# Altium footprint library 33 RESISTORS_THD_AX14_8mm_P.PcbLib: 9 footprints
Each footprint in its own frame and in the unit in brackets; x right, y up, seen from the top. Pads: shape width x height; smd on the part's side, far side on the other; paste and mask are expansions set on the pad; w line width, h text height; cw(c..) or ccw(c..) is an arc to the next point about the centre after c.
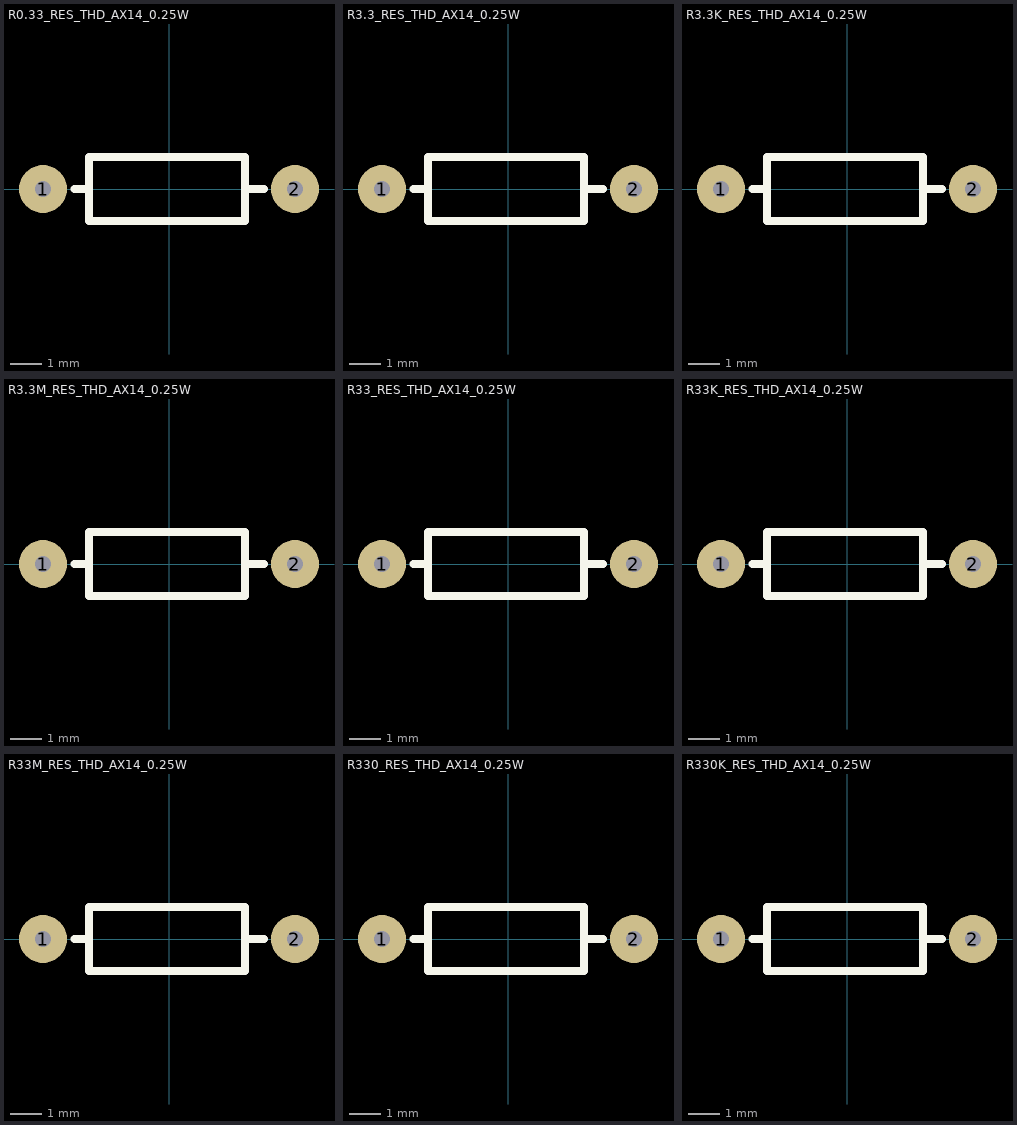
[diagram p0: the footprints below, top view; thin cyan lines are the x and y axes]

## R0.33_RES_THD_AX14_0.25W [mil] "RESISTOR 0.33 Ohm  THD AX14 0.25W Length  8mm"
pads (2):
  round 60 hole 19.68: 1(-157.48,0) 2(157.48,0)
Top Overlay:
  lines w10: -118.28,0 -100.6,0 ; 95,0 118.49,0 ; -100,-40 95,-40 95,40 -100,40 -100,-40
3D body "RES_THD_ASR_ASRM_0.33.STEP": height 96.5, standoff -96.46, extent -167.32,-45.33 167.32,45.33

## R3.3_RES_THD_AX14_0.25W [mil] "RESISTOR 3.3 Ohm  THD AX14 0.25W Length  8mm"
pads (2):
  round 60 hole 19.68: 1(-157.48,0) 2(157.48,0)
Top Overlay:
  lines w10: -118.28,0 -100.6,0 ; 95,0 118.49,0 ; -100,-40 -100,40 95,40 95,-40 -100,-40
3D body "RES_THD_ASR_ASRM_3.3.STEP": height 96.5, standoff -96.46, extent -167.32,-45.33 167.32,45.33

## R3.3K_RES_THD_AX14_0.25W [mil] "RESISTOR 3.3K Ohm  THD AX14 0.25W Length  8mm"
pads (2):
  round 60 hole 19.68: 1(-157.48,0) 2(157.48,0)
Top Overlay:
  lines w10: -118.28,0 -100.6,0 ; 95,0 118.49,0 ; -100,-40 95,-40 95,40 -100,40 -100,-40
3D body "RES_THD_ASR_ASRM_3.3K.STEP": height 96.5, standoff -96.46, extent -167.32,-45.33 167.32,45.33

## R3.3M_RES_THD_AX14_0.25W [mil] "RESISTOR 3.3M Ohm  THD AX14 0.25W Length  8mm"
pads (2):
  round 60 hole 19.68: 1(-157.48,0) 2(157.48,0)
Top Overlay:
  lines w10: -118.28,0 -100.6,0 ; 95,0 118.49,0 ; -100,-40 -100,40 95,40 95,-40 -100,-40
3D body "RES_THD_ASR_ASRM_3.3M.STEP": height 96.5, standoff -96.46, extent -167.32,-45.33 167.32,45.33

## R33_RES_THD_AX14_0.25W [mil] "RESISTOR 33 Ohm  THD AX14 0.25W Length  8mm"
pads (2):
  round 60 hole 19.68: 1(-157.48,0) 2(157.48,0)
Top Overlay:
  lines w10: -118.28,0 -100.6,0 ; 95,0 118.49,0 ; -100,-40 95,-40 95,40 -100,40 -100,-40
3D body "RES_THD_ASR_ASRM_33.STEP": height 96.5, standoff -96.46, extent -167.32,-45.33 167.32,45.33

## R33K_RES_THD_AX14_0.25W [mil] "RESISTOR 33K Ohm  THD AX14 0.25W Length  8mm"
pads (2):
  round 60 hole 19.68: 1(-157.48,0) 2(157.48,0)
Top Overlay:
  lines w10: -118.28,0 -100.6,0 ; 95,0 118.49,0 ; -100,-40 -100,40 95,40 95,-40 -100,-40
3D body "RES_THD_ASR_ASRM_33K.STEP": height 96.5, standoff -96.46, extent -167.32,-45.33 167.32,45.33

## R33M_RES_THD_AX14_0.25W [mil] "RESISTOR 33M Ohm  THD AX14 0.25W Length  8mm"
pads (2):
  round 60 hole 19.68: 1(-157.48,0) 2(157.48,0)
Top Overlay:
  lines w10: -118.28,0 -100.6,0 ; 95,0 118.49,0 ; -100,-40 -100,40 95,40 95,-40 -100,-40
3D body "RES_THD_ASR_ASRM_33M.STEP": height 96.5, standoff -96.46, extent -167.32,-45.33 167.32,45.33

## R330_RES_THD_AX14_0.25W [mil] "RESISTOR 330 Ohm  THD AX14 0.25W Length  8mm"
pads (2):
  round 60 hole 19.68: 1(-157.48,0) 2(157.48,0)
Top Overlay:
  lines w10: -118.28,0 -100.6,0 ; 95,0 118.49,0 ; -100,-40 -100,40 95,40 95,-40 -100,-40
3D body "RES_THD_ASR_ASRM_330.STEP": height 96.5, standoff -96.46, extent -167.32,-45.33 167.32,45.33

## R330K_RES_THD_AX14_0.25W [mil] "RESISTOR 330K Ohm  THD AX14 0.25W Length  8mm"
pads (2):
  round 60 hole 19.68: 1(-157.48,0) 2(157.48,0)
Top Overlay:
  lines w10: -118.28,0 -100.6,0 ; 95,0 118.49,0 ; -100,-40 -100,40 95,40 95,-40 -100,-40
3D body "RES_THD_ASR_ASRM_330K.STEP": height 96.5, standoff -96.46, extent -167.32,-45.33 167.32,45.33